# EAGLE library part 10051922-2410ELF (library CONNECTORs)
24 Position FPC Connector Contacts, Bottom 0.020" (0.50mm) Surface Mount, Right Angle
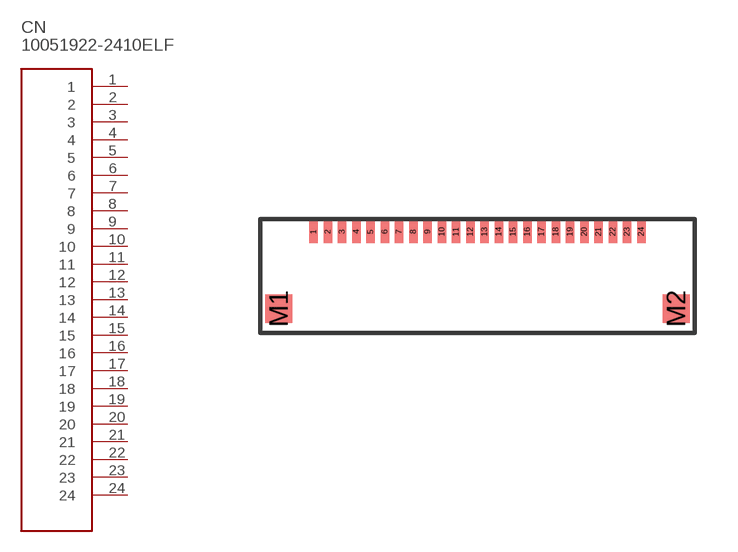
[diagram p60: symbol with the pads of 10051922-2410ELF; footprint 10051922-2410ELF]

Designator prefix CN

## 10051922-2410ELF (DIGIKEY: 609-1241-1-ND; HEIGHT: 1.4; PRICE_PER: 0.84; VALUE: 24PIN FFC)  [10051922-2410ELF]
1  1
2  2
3  3
4  4
5  5
6  6
7  7
8  8
9  9
10  10
11  11
12  12
13  13
14  14
15  15
16  16
17  17
18  18
19  19
20  20
21  21
22  22
23  23
24  24

## Footprint 10051922-2410ELF (pad centres in mm)
smd 0.3 x 0.8: 1 -5.75,1.55; 2 -5.25,1.55; 3 -4.75,1.55; 4 -4.25,1.55; 5 -3.75,1.55; 6 -3.25,1.55; 7 -2.75,1.55; 8 -2.25,1.55; 9 -1.75,1.55; 10 -1.25,1.55; 11 -0.75,1.55; 12 -0.25,1.55; 13 0.25,1.55; 14 0.75,1.55; 15 1.25,1.55; 16 1.75,1.55; 17 2.25,1.55; 18 2.75,1.55; 19 3.25,1.55; 20 3.75,1.55; 21 4.25,1.55; 22 4.75,1.55; 23 5.25,1.55; 24 5.75,1.55
smd 0.95 x 1: M1 -6.975,-1.15; M2 6.975,-1.15